# Altium schematic symbol library Quadcopter  Integrated.SchLib: 20 symbols
Pins are listed as number, name and electrical type; pins without a type are passive.

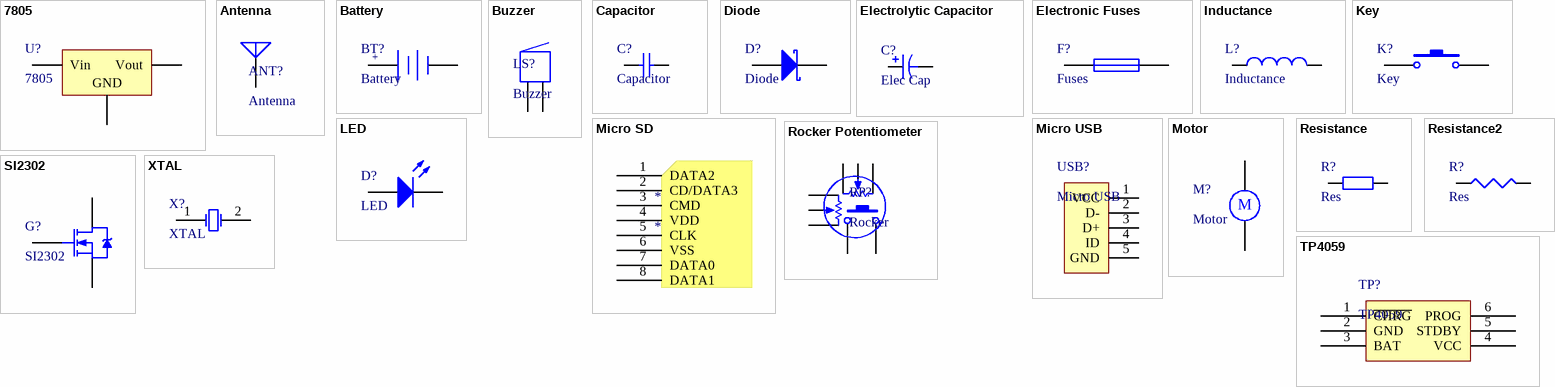
[diagram p0: symbols 7805 to XTAL]

## 7805
designator U?
pins: 1 Vin, 2 GND, 3 Vout

## Antenna
designator ANT?
pins: 1 A

## Battery
designator BT?
pins: 1 +, 2 -

## Buzzer
designator LS?
pins: 1, 1A, 2, 2A

## Capacitor
designator C?
pins: 1, 2

## Diode
designator D?
pins: 1 A, 2 K

## Electrolytic Capacitor
designator C?, comment Elec Cap
pins: 1, 2

## Electronic Fuses
designator F?, comment Fuses
pins: 1, 2

## Inductance
designator L?
pins: 1, 2

## Key
designator K?
pins: 1, 2

## LED
designator D?
pins: 1 A, 2 K

## Micro SD
designator *
pins: 1 DATA2, 2 CD/DATA3, 3 CMD, 4 VDD, 5 CLK, 6 VSS, 7 DATA0, 8 DATA1

## Micro USB
designator USB?
pins: 1 VCC, 2 D-, 3 D+, 4 ID, 5 GND

## Motor
designator M?
pins: 1, 2
text: M

## Resistance
designator R?, comment Res
pins: 1, 2

## Resistance2
designator R?, comment Res
pins: 1, 2

## Rocker Potentiometer
designator RP?, comment Rocker
pins: 1, 2, 3, 4, 5, 6, 8 7, 9

## SI2302
designator G?
pins: 1 G, 2 D, 3 S

## TP4059
designator TP?
pins: 1 ~{CHRG}, 2 GND, 3 BAT, 4 VCC, 5 STDBY, 6 PROG

## XTAL
designator X?
pins: 1 OSC1, 2 OSC2